# Altium schematic symbol library IC_OpAmp.SchLib: 10 symbols
Pins are listed as number, name and electrical type; pins without a type are passive.

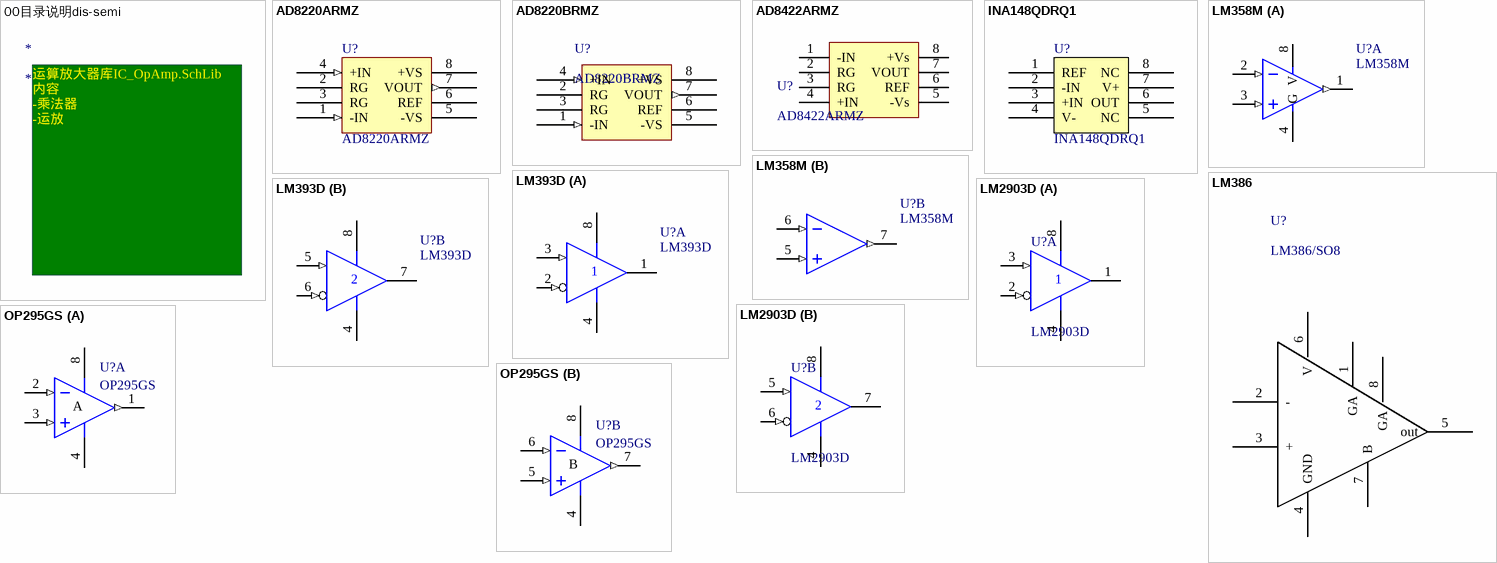
[diagram p0: symbols 00目录说明dis-semi to OP295GS]

## 00目录说明dis-semi
designator *
text: 运算放大器库IC_OpAmp.SchLib / 内容 / -乘法器 / -运放 /

## AD8220ARMZ
designator U?
JFET Input Instrumentation Amplifier with Rail-to-Rail Output; Manufacturer: ADI; Name: 运放; Ordering NO.: AD8220ARMZ
footprint MSOP8/0.65_3*3 (MSOP,8 PIN,Pitch 0.65mm,Body 3mmX3mm)
pins: 1 -IN (in), 2 RG, 3 RG, 4 +IN (in), 5 -VS (power), 6 REF, 7 VOUT (out), 8 +VS (power)

## AD8220BRMZ
designator U?
JFET Input Instrumentation Amplifer with rail to rail Output in MSOP Package; Manufacturer: ADI; Name: 运放; Ordering NO.: AD8220BRMZ
footprint MSOP8/0.65_3*3 (MSOP,8 PIN,Pitch 0.65mm,Body 3mmX3mm)
pins: 1 -IN (in), 2 RG, 3 RG, 4 +IN (in), 5 -VS (power), 6 REF, 7 VOUT (out), 8 +VS (power)

## AD8422ARMZ
designator U?
高性能、低功耗、轨到轨  精密仪表放大器; Manufacturer: ADI; Name: 精密仪表放大器; Ordering NO.: AD8422ARMZ
footprint MSOP8/0.65_3*3 (MSOP,8 PIN,Pitch 0.65mm,Body 3mmX3mm)
pins: 1 -IN, 2 RG, 3 RG, 4 +IN, 5 -Vs, 6 REF, 7 VOUT, 8 +Vs

## INA148QDRQ1
designator U?
±200-V COMMON-MODE VOLTAGE DIFFERENCE AMPLIFIER; Manufacturer: TI; Name: 运放; Ordering NO.: INA148QDRQ1
footprint SO8/1.27_4.9*3.9 (SOIC, 8-Leads, Body 4.9x3.9mm, Pitch 1.27mm,)
pins: 1 REF, 2 -IN, 3 +IN, 4 V-, 5 NC, 6 OUT, 7 V+, 8 NC

## LM358M
designator U?
低功耗双运放, SO8封装; Manufacturer: TI; Name: 运放; Ordering NO.: LM358M
footprint SO8/1.27_4.9*3.9 (SOIC, 8-Leads, Body 4.9x3.9mm, Pitch 1.27mm,)
part A pins: 1 OUTA (out), 2 INA- (in), 3 INA+ (in), 4 G (power), 8 V (power)
part B pins: 5 INB+ (in), 6 INB- (in), 7 OUTB (out)

## LM386
designator U?, comment LM386/SO8
小功率音频功放mono; Manufacturer: National Semiconductor; Name: 运放; Ordering NO.: LM386; Price: 1.5
footprint SO8/1.27_4.9*3.9 (SOIC, 8-Leads, Body 4.9x3.9mm, Pitch 1.27mm,)
pins: 1 GA, 2 -, 3 +, 4 GND, 5 out, 6 V, 7 B, 8 GA

## LM393D
designator U?
Dual Differential Comparator; Manufacturer: TI; Name: 比较器; Ordering NO.: LM393D
footprint SO8/1.27_4.9*3.9 (SOIC, 8-Leads, Body 4.9x3.9mm, Pitch 1.27mm,)
3D model 751-02 (8-Pin Small Outline Integrated Circuit 1.27 mm Pitch)
part A pins: 1 OUT (oc), 2 IN- (in), 3 IN+ (in), 4 GND (power), 8 VCC (power)
part B pins: 4 GND (power), 5 IN+ (in), 6 IN- (in), 7 OUT (oc), 8 VCC (power)

## LM2903D
designator U?
Dual Differential Comparator; Manufacturer: TI; Name: 比较器; Ordering NO.: LM2903D
footprint SO8/1.27_4.9*3.9 (SOIC, 8-Leads, Body 4.9x3.9mm, Pitch 1.27mm,)
part A pins: 1 OUT (oc), 2 IN- (in), 3 IN+ (in), 4 GND (power), 8 VCC (power)
part B pins: 4 GND (power), 5 IN+ (in), 6 IN- (in), 7 OUT (oc), 8 VCC (power)

## OP295GS
designator U?
Fast Settling Dual Operational Amplifier; Manufacturer: ADI; Name: 运放; Ordering NO.: OP295GS
simulation model OP295G (SUBCKT)
footprint SO8/1.27_4.9*3.9 (SOIC, 8-Leads, Body 4.9x3.9mm, Pitch 1.27mm,)
part A pins: 1 OUT (out), 2 IN- (in), 3 IN+ (in), 4 V- (power), 8 V+ (power)
part B pins: 4 V- (power), 5 IN+ (in), 6 IN- (in), 7 OUT (out), 8 V+ (power)
part A text: A
part B text: B